# Altium schematic symbol library Schlib1_therm.SchLib: 1 symbol
Pins are listed as number, name and electrical type; pins without a type are passive.

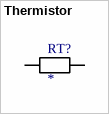
[diagram p0: symbol Thermistor]

## Thermistor
designator RT?
Manufactured: Epcos; Manufactured Part Number: B57153S0479M000; Package size: 0.590 x 0.276
pins: 1, 2